# EAGLE library part H-BRIDGE_SN754410_SOCKET (library Chao)
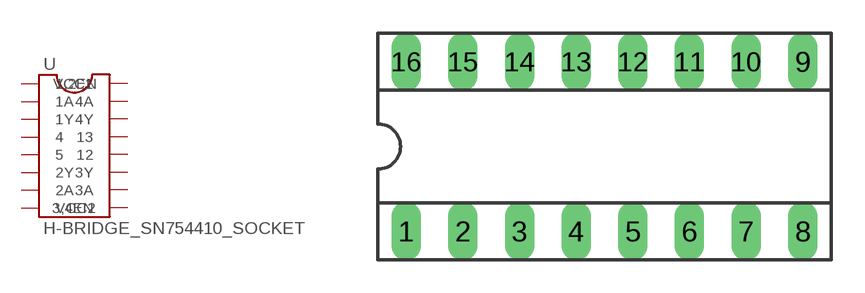
[diagram p2: symbol with the pads of 16PIN_IC_SOCKET; footprint 16PIN_IC_SOCKET]

Designator prefix -

## H-BRIDGE_SN754410_SOCKET  [16PIN_IC_SOCKET]
1  1,2EN  in
2  1A  in
3  1Y  out
4  4  pas
5  5  pas
6  2Y  out
7  2A  in
8  VCC2  pas
9  3,4EN  in
10  3A  in
11  3Y  out
12  12  pas
13  13  pas
14  4Y  out
15  4A  in
16  VCC1  pas

## Footprint 16PIN_IC_SOCKET (pad centres in mm)
drill 0.813 long: 1 -8.89,-3.81; 2 -6.35,-3.81; 3 -3.81,-3.81; 4 -1.27,-3.81; 5 1.27,-3.81; 6 3.81,-3.81; 7 6.35,-3.81; 8 8.89,-3.81; 9 8.89,3.81; 10 6.35,3.81; 11 3.81,3.81; 12 1.27,3.81; 13 -1.27,3.81; 14 -3.81,3.81; 15 -6.35,3.81; 16 -8.89,3.81